# Altium footprint library QFN-28.PcbLib: 1 footprints
Each footprint in its own frame and in the unit in brackets; x right, y up, seen from the top. Pads: shape width x height; smd on the part's side, far side on the other; paste and mask are expansions set on the pad; w line width, h text height; cw(c..) or ccw(c..) is an arc to the next point about the centre after c.
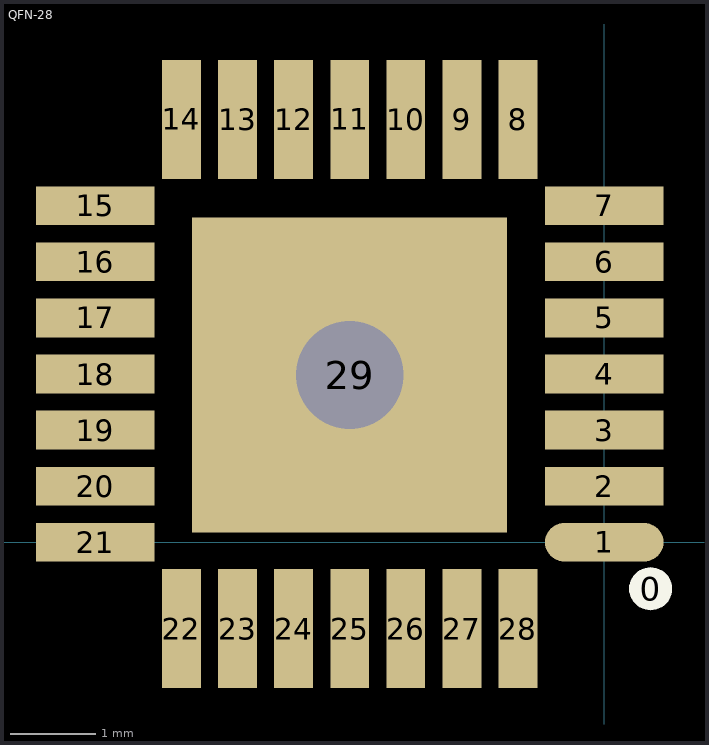
[diagram p0: the footprint, top view; thin cyan lines are the x and y axes]

## QFN-28 [mil] "PIC16F87XA"
height 40
pads (30):
  round 20 on Top Overlay: 0(21.5,-21.55)
  oval 55x18 smd: 1(0,0)
  rect 55x18 smd: 2(0,26) 3(0,52) 4(0,78) 5(0,104) 6(0,130) 7(0,156) 15(-236,156) 16(-236,130) 17(-236,104) 18(-236,78) 19(-236,52) 20(-236,26) 21(-236,0)
  rect 18x55 smd: 8(-40,196) 9(-66,196) 10(-92,196) 11(-118,196) 12(-144,196) 13(-170,196) 14(-196,196) 22(-196,-40) 23(-170,-40) 24(-144,-40) 25(-118,-40) 26(-92,-40) 27(-66,-40) 28(-40,-40)
  rect 146x146 / inner round 50 / far side round 50 hole 50: 29(-118,77.5)
3D body: height 40.26, standoff -3.3, extent -236.44,-40.28 -0.22,195.94